# Altium footprint library DIP Led.PcbLib: 26 footprints (part 1 of 2)
Each footprint in its own frame and in the unit in brackets; x right, y up, seen from the top. Pads: shape width x height; smd on the part's side, far side on the other; paste and mask are expansions set on the pad; w line width, h text height; cw(c..) or ccw(c..) is an arc to the next point about the centre after c.
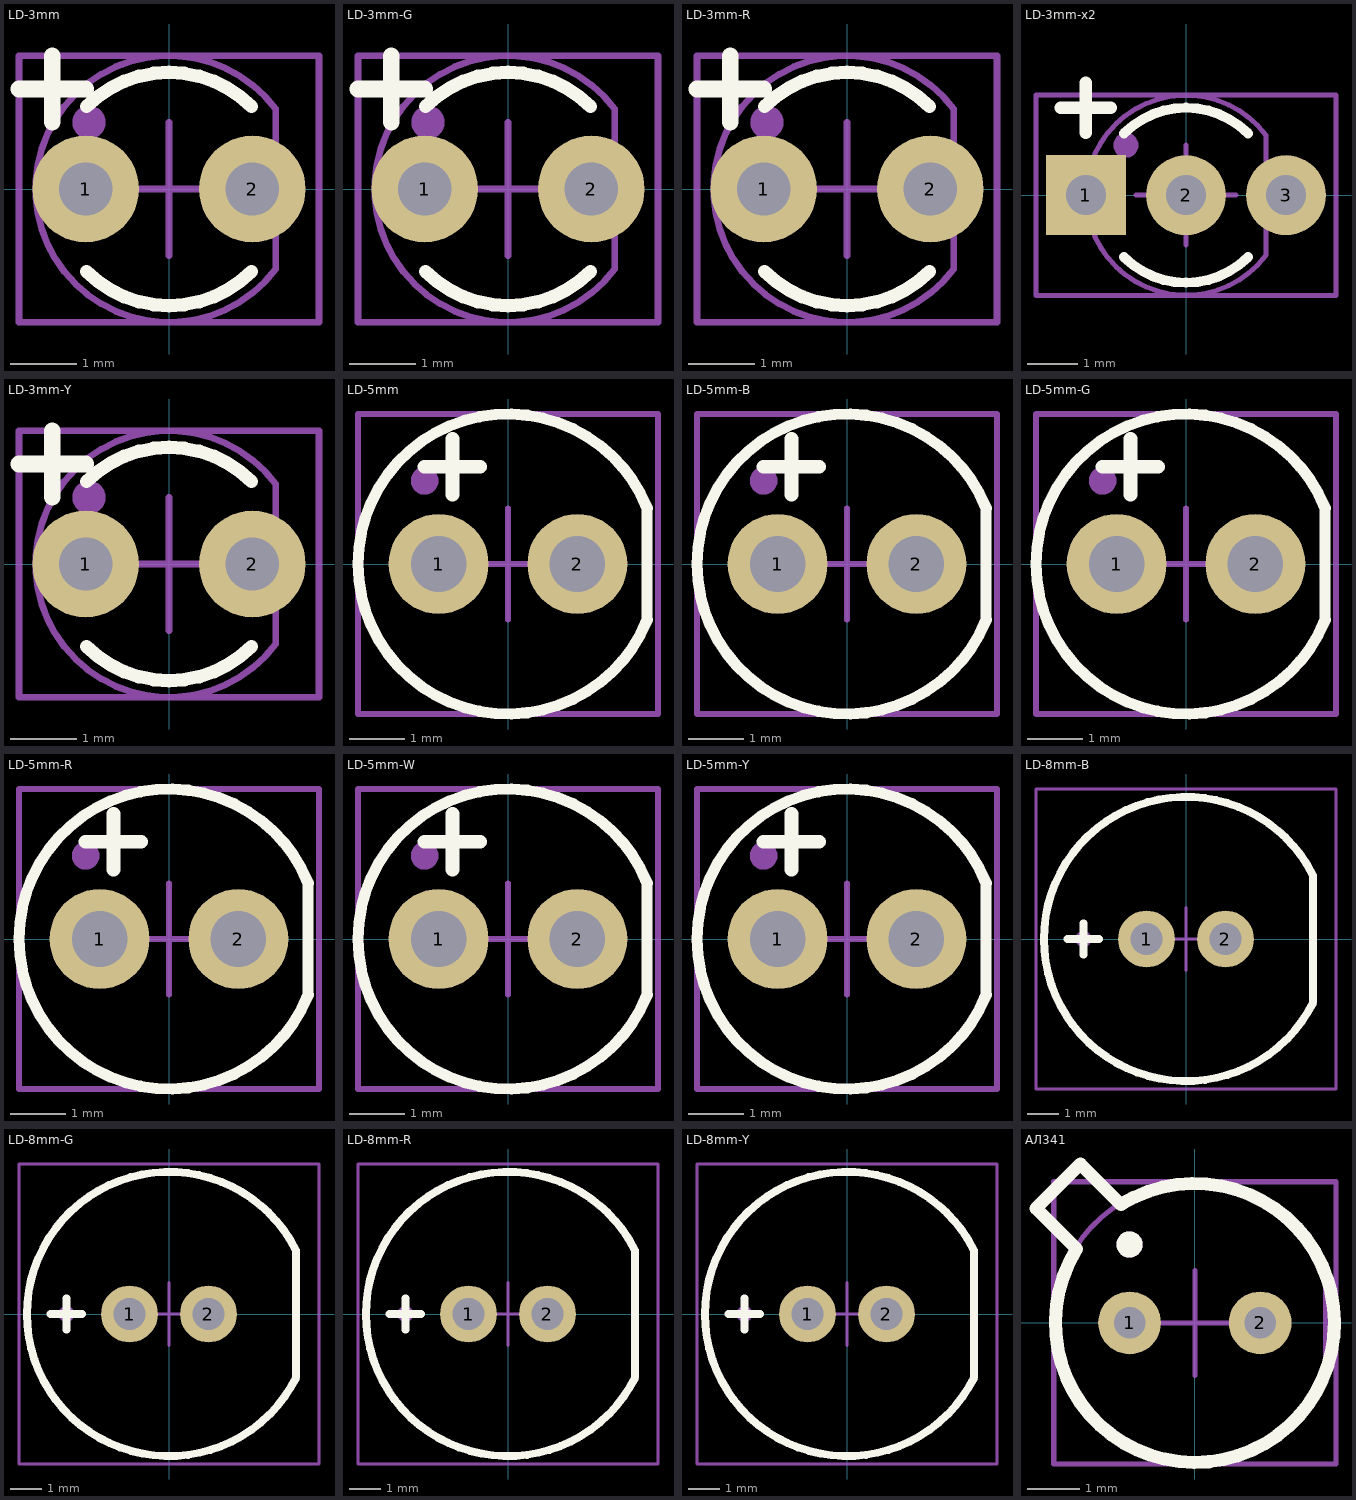
[diagram p0: the footprints below, top view; thin cyan lines are the x and y axes]

## LD-3mm [mm] "3mm DIP Led Footprint"
height 10
pads (2):
  round 1.6 hole 0.8: 1(-1.25,0) 2(1.25,0)
Top Overlay:
  lines w0.2: -1.237,-1.237 ccw(c0,0) 1.237,-1.237 ; -1.237,1.237 cw(c0,0) 1.237,1.237
  lines w0.25: -2.25,1.5 -1.25,1.5 ; -1.75,1 -1.75,2
Mechanical 13:
  circle w0.25: c-1.2,1 r0.125
  lines w0.1: 1.5,-0.5 1.5,0.5 ; 1.6,-1.2 cw(c0,0) 1.6,1.2 1.6,-1.2
Mechanical 15:
  lines w0.1: -1,0 1,0 ; 0,-1 0,1 ; -2.25,-2 2.25,-2 2.25,2 -2.25,2 -2.25,-2

## LD-3mm-G [mm] "3mm DIP Green Led Footprint"
height 10
pads (2):
  round 1.6 hole 0.8: 1(-1.25,0) 2(1.25,0)
Top Overlay:
  lines w0.2: -1.237,-1.237 ccw(c0,0) 1.237,-1.237 ; -1.237,1.237 cw(c0,0) 1.237,1.237
  lines w0.25: -2.25,1.5 -1.25,1.5 ; -1.75,1 -1.75,2
Mechanical 13:
  circle w0.25: c-1.2,1 r0.125
  lines w0.1: 1.5,-0.5 1.5,0.5 ; 1.6,-1.2 cw(c0,0) 1.6,1.2 1.6,-1.2
Mechanical 15:
  lines w0.1: -1,0 1,0 ; 0,-1 0,1 ; -2.25,-2 2.25,-2 2.25,2 -2.25,2 -2.25,-2
3D body "sw3dps-ledd3g.step": height 7.01, standoff -0.99, extent -1.65,-1.689 1.65,1.6

## LD-3mm-R [mm] "3mm DIP Red Led Footprint"
height 10
pads (2):
  round 1.6 hole 0.8: 1(-1.25,0) 2(1.25,0)
Top Overlay:
  lines w0.2: -1.237,-1.237 ccw(c0,0) 1.237,-1.237 ; -1.237,1.237 cw(c0,0) 1.237,1.237
  lines w0.25: -2.25,1.5 -1.25,1.5 ; -1.75,1 -1.75,2
Mechanical 13:
  circle w0.25: c-1.2,1 r0.125
  lines w0.1: 1.5,-0.5 1.5,0.5 ; 1.6,-1.2 cw(c0,0) 1.6,1.2 1.6,-1.2
Mechanical 15:
  lines w0.1: -1,0 1,0 ; 0,-1 0,1 ; -2.25,-2 -2.25,2 2.25,2 2.25,-2 -2.25,-2
3D body "sw3dps-ledd3r.step": height 7.01, standoff -0.99, extent -1.65,-1.689 1.65,1.6

## LD-3mm-x2 [mm] "3mm DIP Double Led Footprint"
height 10
pads (3):
  rect 1.6x1.6 hole 0.8: 1(-2,0)
  round 1.6 hole 0.8: 2(0,0) 3(2,0)
Top Overlay:
  lines w0.2: -1.237,-1.237 ccw(c0,0) 1.237,-1.237 ; -1.237,1.237 cw(c0,0) 1.237,1.237
  lines w0.25: -2.5,1.75 -1.5,1.75 ; -2,1.25 -2,2.25
Mechanical 13:
  circle w0.25: c-1.2,1 r0.125
  lines w0.1: 1.5,-0.5 1.5,0.5 ; 1.6,-1.2 cw(c0,0) 1.6,1.2 1.6,-1.2
Mechanical 15:
  lines w0.1: -1,0 1,0 ; 0,-1 0,1 ; -3,-2 3,-2 3,2 -3,2 -3,-2
3D body "User Library-LED RG.step": height 10.43, standoff -3, extent -2.25,-2 2.25,2

## LD-3mm-Y [mm] "3mm DIP Yellow Led Footprint"
height 10
pads (2):
  round 1.6 hole 0.8: 1(-1.25,0) 2(1.25,0)
Top Overlay:
  lines w0.2: -1.237,-1.237 ccw(c0,0) 1.237,-1.237 ; -1.237,1.237 cw(c0,0) 1.237,1.237
  lines w0.25: -2.25,1.5 -1.25,1.5 ; -1.75,1 -1.75,2
Mechanical 13:
  circle w0.25: c-1.2,1 r0.125
  lines w0.1: 1.5,-0.5 1.5,0.5 ; 1.6,-1.2 cw(c0,0) 1.6,1.2 1.6,-1.2
Mechanical 15:
  lines w0.1: -1,0 1,0 ; 0,-1 0,1 ; -2.25,-2 2.25,-2 2.25,2 -2.25,2 -2.25,-2
3D body "sw3dps-ledd3y.step": height 7.01, standoff -0.99, extent -1.65,-1.689 1.65,1.6

## LD-5mm [mm] "5mm DIP Led Footprint"
height 10
pads (2):
  round 1.8 hole 1: 1(-1.25,0) 2(1.25,0)
Top Overlay:
  lines w0.2: 2.5,-1 2.5,1 ; 2.507,-1.003 cw(c0,0) 2.507,1.003
  lines w0.25: -1.5,1.75 -0.5,1.75 ; -1,1.25 -1,2.25
Mechanical 13:
  circle w0.25: c-1.5,1.5 r0.125
  lines w0.1: 2.5,-1 2.5,1 ; 2.507,-1.003 cw(c0,0) 2.507,1.003
Mechanical 15:
  lines w0.1: -1,0 1,0 ; 0,-1 0,1 ; -2.7,-2.7 2.7,-2.7 2.7,2.7 -2.7,2.7 -2.7,-2.7
3D body "SW3dPS-LEDd5C.STEP": height 13.31, standoff -1.49, extent -2.98,-3.01 2.44,3.01

## LD-5mm-B [mm] "5mm DIP Blue Led Footprint"
height 10
pads (2):
  round 1.8 hole 1: 1(-1.25,0) 2(1.25,0)
Top Overlay:
  lines w0.2: 2.5,-1 2.5,1 ; 2.507,-1.003 cw(c0,0) 2.507,1.003
  lines w0.25: -1.5,1.75 -0.5,1.75 ; -1,1.25 -1,2.25
Mechanical 13:
  circle w0.25: c-1.5,1.5 r0.125
  lines w0.1: 2.5,-1 2.5,1 ; 2.507,-1.003 cw(c0,0) 2.507,1.003
Mechanical 15:
  lines w0.1: -1,0 1,0 ; 0,-1 0,1 ; -2.7,-2.7 -2.7,2.7 2.7,2.7 2.7,-2.7 -2.7,-2.7
3D body "User Library-LEDd5B.STEP": height 13.31, standoff -1.49, extent -2.98,-3.01 2.44,3.01

## LD-5mm-G [mm] "5mm DIP Green Led Footprint"
height 10
pads (2):
  round 1.8 hole 1: 1(-1.25,0) 2(1.25,0)
Top Overlay:
  lines w0.2: 2.5,-1 2.5,1 ; 2.507,-1.003 cw(c0,0) 2.507,1.003
  lines w0.25: -1.5,1.75 -0.5,1.75 ; -1,1.25 -1,2.25
Mechanical 13:
  circle w0.25: c-1.5,1.5 r0.125
  lines w0.1: 2.5,-1 2.5,1 ; 2.507,-1.003 cw(c0,0) 2.507,1.003
Mechanical 15:
  lines w0.1: -1,0 1,0 ; 0,-1 0,1 ; -2.7,-2.7 2.7,-2.7 2.7,2.7 -2.7,2.7 -2.7,-2.7
3D body "SW3dPS-LEDd5G.STEP": height 13.31, standoff -1.49, extent -2.98,-3.01 2.44,3.01

## LD-5mm-R [mm] "5mm DIP Red Led Footprint"
height 10
pads (2):
  round 1.8 hole 1: 1(-1.25,0) 2(1.25,0)
Top Overlay:
  lines w0.2: 2.5,-1 2.5,1 ; 2.507,-1.003 cw(c0,0) 2.507,1.003
  lines w0.25: -1.5,1.75 -0.5,1.75 ; -1,1.25 -1,2.25
Mechanical 13:
  circle w0.25: c-1.5,1.5 r0.125
  lines w0.1: 2.5,-1 2.5,1 ; 2.507,-1.003 cw(c0,0) 2.507,1.003
Mechanical 15:
  lines w0.1: -1,0 1,0 ; 0,-1 0,1 ; -2.7,-2.7 2.7,-2.7 2.7,2.7 -2.7,2.7 -2.7,-2.7
3D body "SW3dPS-LEDd5R.STEP": height 13.31, standoff -1.49, extent -2.98,-3.01 2.44,3.01

## LD-5mm-W [mm] "5mm DIP White Led Footprint"
height 10
pads (2):
  round 1.8 hole 1: 1(-1.25,0) 2(1.25,0)
Top Overlay:
  lines w0.2: 2.5,-1 2.5,1 ; 2.507,-1.003 cw(c0,0) 2.507,1.003
  lines w0.25: -1.5,1.75 -0.5,1.75 ; -1,1.25 -1,2.25
Mechanical 13:
  circle w0.25: c-1.5,1.5 r0.125
  lines w0.1: 2.5,-1 2.5,1 ; 2.507,-1.003 cw(c0,0) 2.507,1.003
Mechanical 15:
  lines w0.1: -1,0 1,0 ; 0,-1 0,1 ; -2.7,-2.7 2.7,-2.7 2.7,2.7 -2.7,2.7 -2.7,-2.7
3D body "tlcw5100.step": height 13.9, standoff -2, extent -2.9,-2.9 2.5,2.9

## LD-5mm-Y [mm] "5mm DIP Yellow Led Footprint"
height 10
pads (2):
  round 1.8 hole 1: 1(-1.25,0) 2(1.25,0)
Top Overlay:
  lines w0.2: 2.5,-1 2.5,1 ; 2.507,-1.003 cw(c0,0) 2.507,1.003
  lines w0.25: -1.5,1.75 -0.5,1.75 ; -1,1.25 -1,2.25
Mechanical 13:
  circle w0.25: c-1.5,1.5 r0.125
  lines w0.1: 2.5,-1 2.5,1 ; 2.507,-1.003 cw(c0,0) 2.507,1.003
Mechanical 15:
  lines w0.1: -1,0 1,0 ; 0,-1 0,1 ; -2.7,-2.7 2.7,-2.7 2.7,2.7 -2.7,2.7 -2.7,-2.7
3D body "SW3dPS-LEDd5Y.STEP": height 13.31, standoff -1.49, extent -2.98,-3.01 2.44,3.01

## LD-8mm-B [mm] "8mm DIP Led Footprint"
height 15
pads (2):
  round 1.8 hole 1: 1(-1.25,0) 2(1.25,0)
Top Overlay:
  lines w0.25: -3.75,0 -2.75,0 ; -3.25,-0.5 -3.25,0.5 ; 4.025,-2.002 4.025,2.012 ccw(c0,0) 4.03,-2.002
Mechanical 13:
  circle w0.25: c-3.25,0 r0.125
  lines w0.1: 4.025,-2.002 4.025,2.012 ccw(c0,0) 4.03,-2.002
Mechanical 15:
  lines w0.1: -1,0 1,0 ; 0,-1 0,1 ; -4.75,-4.75 -4.75,4.75 4.75,4.75 4.75,-4.75 -4.75,-4.75
3D body "User Library-BL-L813_B.step": height 16, standoff -26, extent -4.5,-4.5 4.03,4.5

## LD-8mm-G [mm] "8mm DIP Led Footprint"
height 15
pads (2):
  round 1.8 hole 1: 1(-1.25,0) 2(1.25,0)
Top Overlay:
  lines w0.25: -3.75,0 -2.75,0 ; -3.25,-0.5 -3.25,0.5 ; 4.025,-2.002 4.025,2.012 ccw(c0,0) 4.03,-2.002
Mechanical 13:
  circle w0.25: c-3.25,0 r0.125
  lines w0.1: 4.025,-2.002 4.025,2.012 ccw(c0,0) 4.03,-2.002
Mechanical 15:
  lines w0.1: -1,0 1,0 ; 0,-1 0,1 ; -4.75,-4.75 4.75,-4.75 4.75,4.75 -4.75,4.75 -4.75,-4.75
3D body "User Library-BL-L813_G.step": height 16, standoff -26, extent -4.5,-4.5 4.03,4.5

## LD-8mm-R [mm] "8mm DIP Led Footprint"
height 15
pads (2):
  round 1.8 hole 1: 1(-1.25,0) 2(1.25,0)
Top Overlay:
  lines w0.25: -3.75,0 -2.75,0 ; -3.25,-0.5 -3.25,0.5 ; 4.025,-2.002 4.025,2.012 ccw(c0,0) 4.03,-2.002
Mechanical 13:
  circle w0.25: c-3.25,0 r0.125
  lines w0.1: 4.025,-2.002 4.025,2.012 ccw(c0,0) 4.03,-2.002
Mechanical 15:
  lines w0.1: -1,0 1,0 ; 0,-1 0,1 ; -4.75,-4.75 -4.75,4.75 4.75,4.75 4.75,-4.75 -4.75,-4.75
3D body "User Library-BL-L813_R.step": height 16, standoff -26, extent -4.5,-4.5 4.03,4.5

## LD-8mm-Y [mm] "8mm DIP Led Footprint"
height 15
pads (2):
  round 1.8 hole 1: 1(-1.25,0) 2(1.25,0)
Top Overlay:
  lines w0.25: -3.75,0 -2.75,0 ; -3.25,-0.5 -3.25,0.5 ; 4.025,-2.002 4.025,2.012 ccw(c0,0) 4.03,-2.002
Mechanical 13:
  circle w0.25: c-3.25,0 r0.125
  lines w0.1: 4.025,-2.002 4.025,2.012 ccw(c0,0) 4.03,-2.002
Mechanical 15:
  lines w0.1: -1,0 1,0 ; 0,-1 0,1 ; -4.75,-4.75 -4.75,4.75 4.75,4.75 4.75,-4.75 -4.75,-4.75
3D body "User Library-BL-L813_Y.step": height 16, standoff -26, extent -4.5,-4.5 4.03,4.5

## АЛ341 [mm]
height 10
pads (2):
  round 1.2 hole 0.6: 1(-1.25,0) 2(1.25,0)
Top Overlay:
  circle w0.25: c-1.25,1.5 r0.125
  lines w0.25: -2.278,1.392 ccw(c0,0) -1.395,2.276 ; -2.263,1.414 -3.041,2.192 -2.192,3.041 -1.414,2.263
Mechanical 13:
  circle w0.25: c-1.25,1.5 r0.125
  lines w0.1: 2.5,-1 2.5,1 ; 2.507,-1.003 cw(c0,0) 2.507,1.003
Mechanical 15:
  lines w0.1: -1,0 1,0 ; 0,-1 0,1 ; -2.7,-2.7 2.7,-2.7 2.7,2.7 -2.7,2.7 -2.7,-2.7
3D body "User Library-TO-18.STEP": height 7.3, standoff -2, extent -2.9,-2.9 2.9,2.9